# Altium footprint library coilgun.PcbLib: 7 footprints
Each footprint in its own frame and in the unit in brackets; x right, y up, seen from the top. Pads: shape width x height; smd on the part's side, far side on the other; paste and mask are expansions set on the pad; w line width, h text height; cw(c..) or ccw(c..) is an arc to the next point about the centre after c.
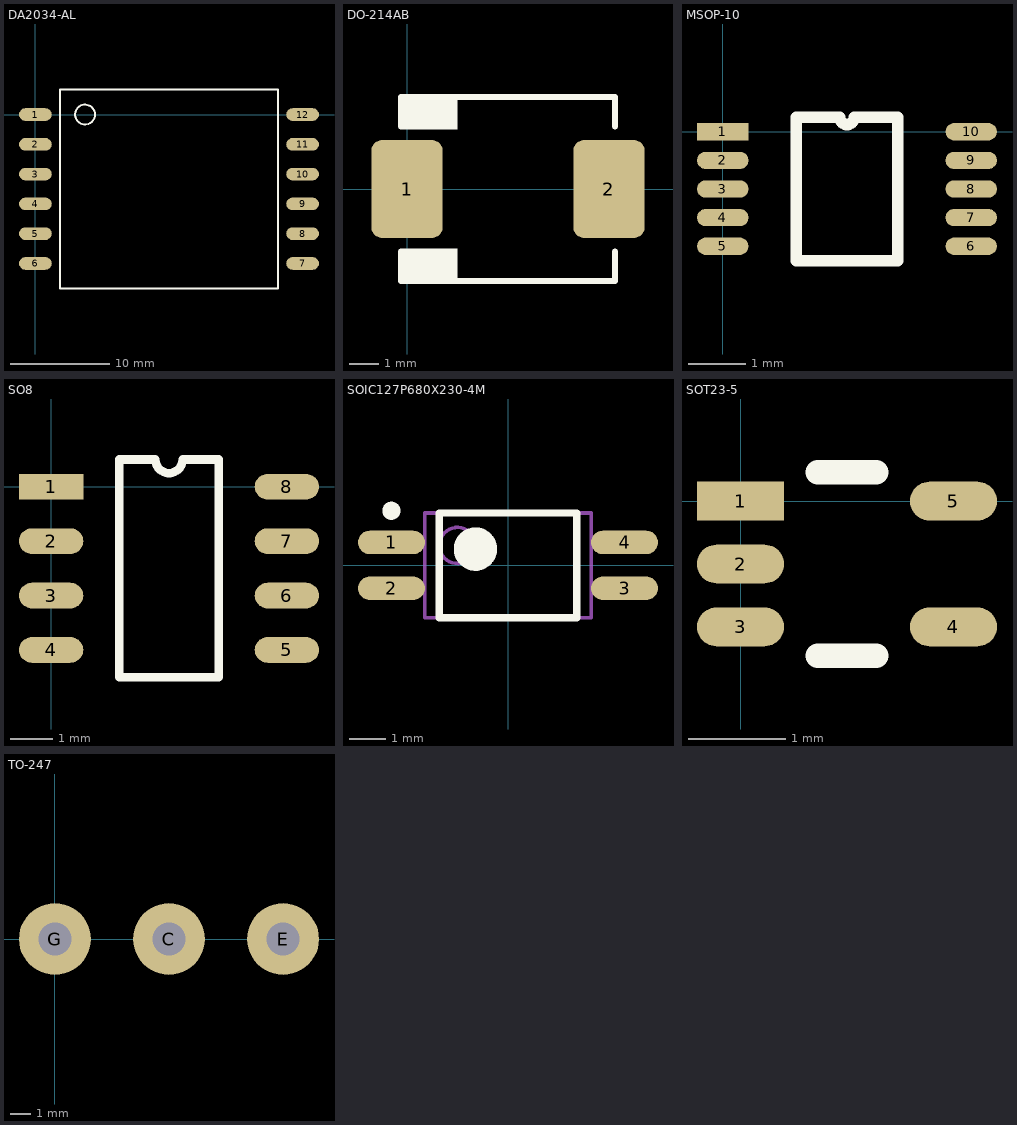
[diagram p0: the footprints below, top view; thin cyan lines are the x and y axes]

## DA2034-AL [mm]
pads (12):
  oval 3.3x1.27 smd: 1(0,0) 2(0,-3) 3(0,-6) 4(0,-9) 5(0,-12) 6(0,-15) 7(26.92,-15) 8(26.92,-12) 9(26.92,-9) 10(26.92,-6) 11(26.92,-3) 12(26.92,0)
Top Overlay:
  circle w0.2: c5,0 r1
  lines w0.2: 2.485,-17.5 2.485,2.5 24.435,2.5 24.435,-17.5 2.485,-17.5
3D body "Coilcraft-DA2034-AL-DEFAULT.STEP": height 11.44, standoff 0.01, extent -0.825,-17.385 27.825,3.185

## DO-214AB [mm]
pads (2):
  rrect30% 2.4x3.3 smd: 1(0,0) 2(6.8,0)
Top Overlay:
  rectangle: -0.2,2 1.7,3.1
  rectangle: -0.2,-3.1 1.7,-2
  lines w0.2: -0.2,-2.1 -0.2,-3.1 7,-3.1 7,-2.1 ; -0.2,2.1 -0.2,3.1 7,3.1 7,2.1
3D body "User Library-SMC CASE 403-03.STEP": height 2.2, standoff 0, extent -0.6,-2.975 7.4,2.975

## MSOP-10 [mm]
pads (10):
  rect 0.9x0.3 smd: 1(0,0)
  oval 0.9x0.3 smd: 2(0,-0.5) 3(0,-1) 4(0,-1.5) 5(0,-2) 6(4.34,-2) 7(4.34,-1.5) 8(4.34,-1) 9(4.34,-0.5) 10(4.34,0)
Top Overlay:
  lines w0.2: 1.285,-2.25 1.285,0.25 2.045,0.25 ccw(c2.17,0.25) 2.295,0.25 3.055,0.25 3.055,-2.25 1.285,-2.25
3D body "User Library-msop-10.step": height 1.15, standoff 0, extent -0.275,-2.5 4.625,0.5

## SO8 [mm]
pads (8):
  rect 1.5x0.6 smd: 1(0,0)
  oval 1.5x0.6 smd: 2(0,-1.27) 3(0,-2.54) 4(0,-3.81) 5(5.5,-3.81) 6(5.5,-2.54) 7(5.5,-1.27) 8(5.5,0)
Top Overlay:
  lines w0.2: 1.585,-4.445 3.915,-4.445 3.915,0.635 3.067,0.635 cw(c2.75,0.635) 2.432,0.635 1.585,0.635 1.585,-4.445
3D body "CircuitWorks-SO-8.step": height 1.46, standoff 0.01, extent -0.15,-4.351 5.628,0.551

## SOIC127P680X230-4M [mm] "SOIC, 4-Leads, Body 2,60x4,40mm, Pitch 1,27mm, IPC Low Density"
height 2.3
pads (4):
  oval 1.85x0.65 smd: 1(-3.225,0.635) 2(-3.225,-0.635) 3(3.225,-0.635) 4(3.225,0.635)
Top Overlay:
  circle w0.6: c-0.9,0.45 r0.3
  circle w0.25: c-3.225,1.51 r0.125
  lines w0.2: -1.9,-1.45 1.9,-1.45 1.9,1.45 -1.9,1.45 -1.9,-1.45
Mechanical 13:
  circle w0.1: c-1.4,0.55 r0.5
  lines w0.1: -2.3,-1.45 2.3,-1.45 2.3,1.45 -2.3,1.45 -2.3,-1.45
3D body "User Library-PC3H7.step": height 2.06, standoff 0.01, extent -3.55,-1.3 3.45,1.3

## SOT23-5 [mm]
pads (5):
  rect 0.9x0.4 smd: 1(0,0)
  oval 0.9x0.4 smd: 2(0,-0.65) 3(0,-1.3) 4(2.2,-1.3) 5(2.2,0)
Top Overlay:
  lines w0.254: 0.8,-1.6 1.4,-1.6 ; 0.8,0.3 1.4,0.3

## TO-247 [mm]
pads (3):
  round 3.5 hole 1.6: C(5.56,0) E(11.12,0) G(0,0)
3D body "User Library-TO-247 CASE 340L-02 Vertical.STEP": height 25.55, standoff -15.85, extent -2.44,-2.2 13.56,2.8